# Altium schematic symbol library GRM21BR71H105KA12L.SchLib: 1 symbol
Pins are listed as number, name and electrical type; pins without a type are passive.

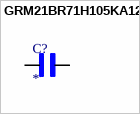
[diagram p0: symbol GRM21BR71H105KA12L]

## GRM21BR71H105KA12L
designator C?
SMD Capacitor X7R(EIA) with Capacitance: 1.0uF Tol. 10%. Rated Voltage: 50Vdc; MF: Murata; MP: GRM21BR71H105KA12L; SnapEDA_Link: https://www.snapeda.com/parts/GRM21BR71H105KA12L/Murata/view-part/?ref=snap; Package: 805-2 Murata; Value: *; Check_prices: https://www.snapeda.com/parts/GRM21BR71H105KA12L/Murata/view-part/?ref=eda
footprint CAPC2012X135N
pins: 1, 2